# Altium schematic symbol library TPS5430DDAR.Schlib: 1 symbol
Pins are listed as number, name and electrical type; pins without a type are passive.

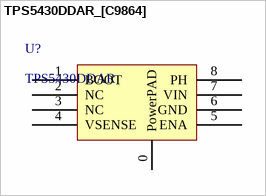
[diagram p0: symbol TPS5430DDAR_[C9864]]

## TPS5430DDAR_[C9864]
designator U?, comment TPS5430DDAR
DC-DC芯片
footprint SOP-8_EP_150mil
pins: 0 PowerPAD, 1 BOOT, 2 NC, 3 NC, 4 VSENSE, 5 ENA, 6 GND, 7 VIN, 8 PH